# Altium footprint library LDv6.1.PcbLib: 11 footprints
Each footprint in its own frame and in the unit in brackets; x right, y up, seen from the top. Pads: shape width x height; smd on the part's side, far side on the other; paste and mask are expansions set on the pad; w line width, h text height; cw(c..) or ccw(c..) is an arc to the next point about the centre after c.
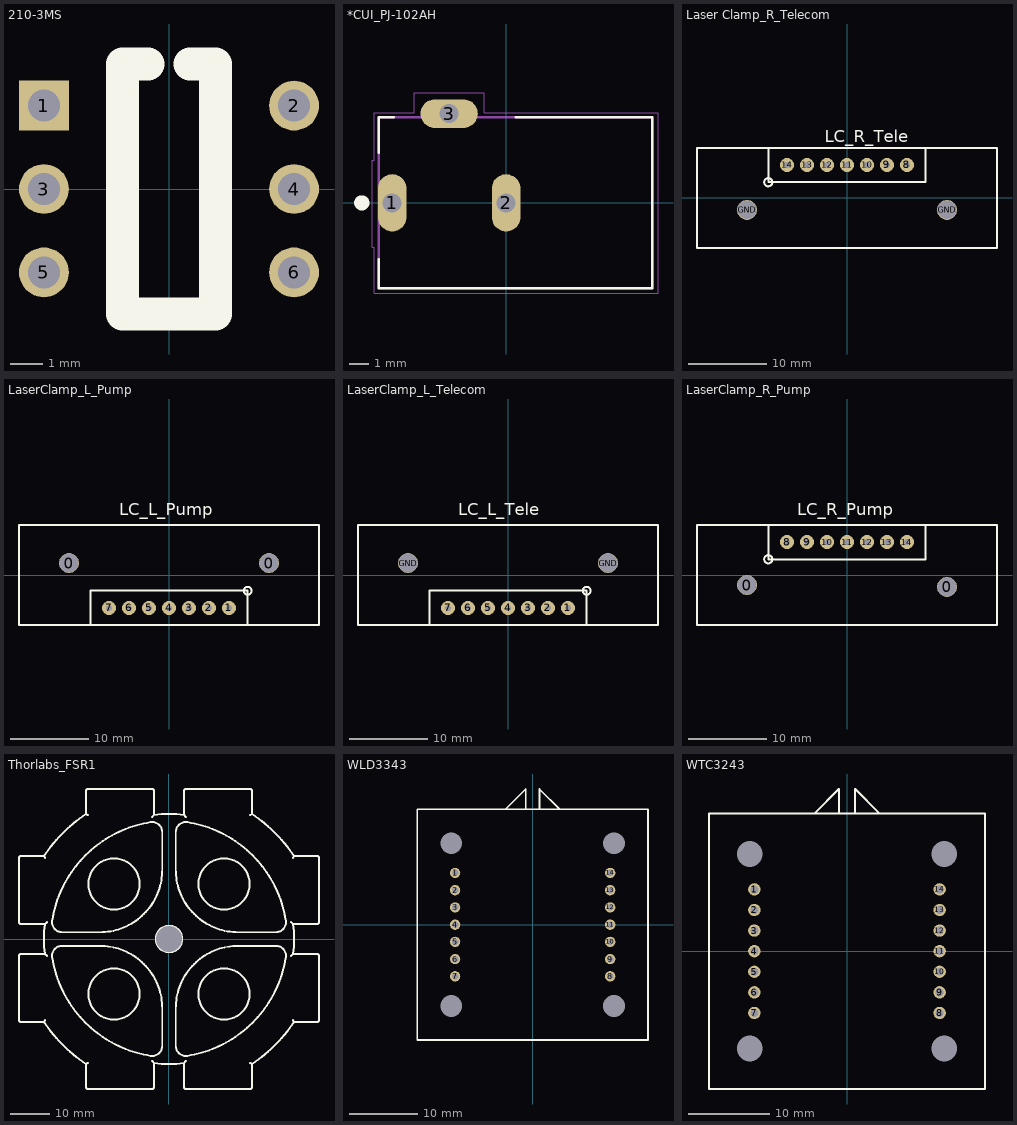
[diagram p0: the footprints below, top view; thin cyan lines are the x and y axes]

## 210-3MS [mm]
pads (6):
  rect 1.52x1.52 hole 0.97: 1(-3.81,2.54)
  round 1.52 hole 0.97: 2(3.81,2.54) 3(-3.81,0) 4(3.81,0) 5(-3.81,-2.54) 6(3.81,-2.54)
Top Overlay:
  lines w1: -0.635,3.81 -1.415,3.81 -1.415,-3.81 1.415,-3.81 1.415,3.81 0.635,3.81

## *CUI_PJ-102AH [mm]
pads (3):
  oval 1.508x3.016 hole 1: 1(-6,0) 2(0,0)
  oval 3.016x1.508 hole 1: 3(-3,4.7)
Top Overlay:
  circle w0.4: c-7.6,0 r0.2
  lines w0.127: -6.7,-2.96 -6.7,-4.5 7.7,-4.5 7.7,4.5 0.5,4.5 ; -6.7,2.628 -6.7,4.5 -5.922,4.5
Mechanical 1:
  lines w0: -6.5,-0.8 -6.5,0.8 -5.5,0.8 -5.5,-0.8 -6.5,-0.8 ; -3.8,4.2 -2.2,4.2 -2.2,5.2 -3.8,5.2 -3.8,4.2 ; -0.5,-0.8 -0.5,0.8 0.5,0.8 0.5,-0.8 -0.5,-0.8
Mechanical 4:
  lines w0.127: -6.7,-4.5 -6.7,4.5 ; -6.7,-4.5 7.7,-4.5 ; -6.7,-4.5 -6.7,4.5 ; -6.7,-4.5 7.7,-4.5 ; -6.7,4.5 7.7,4.5 ; -6.7,4.5 7.7,4.5 ; 7.7,-4.5 7.7,4.5 ; 7.7,-4.5 7.7,4.5
Mechanical 16:
  lines w0.05: -7.05,-2.35 -6.95,-2.35 -6.95,-4.75 8,-4.75 8,4.75 -1.15,4.75 -1.15,5.8 -4.85,5.8 -4.85,4.75 -6.95,4.75 -6.95,2.25 -7.05,2.25 -7.05,-2.35
3D body "PJ-102AH--3DModel-STEP-56544.STEP": height 3.02, standoff -11.49, extent -6.7,-4.5 7.7,4.9

## Laser Clamp_R_Telecom [mm]
pads (9):
  round 1.8 hole 0.8: 8(7.62,4.19) 9(5.08,4.19) 10(2.54,4.19) 11(0,4.19) 12(-2.54,4.19) 13(-5.08,4.19) 14(-7.62,4.19)
  round 2.54 hole 2.362: GND(-12.7,-1.52) GND(12.7,-1.52)
Top Overlay:
  circle w0.254: c-10,2 r0.52
  lines w0.254: -10,6.3 -10,2 10,2 10,6.3 ; -19.05,-6.35 -19.05,6.35 19.05,6.35 19.05,-6.35 -19.05,-6.35
  text "LC_R_Tele" at -2.8,7.1 h1.52

## LaserClamp_L_Pump [mm]
pads (9):
  round 2.54 hole 2.362: 0(-12.7,1.52) 0(12.7,1.52)
  round 1.8 hole 0.8: 1(7.62,-4.19) 2(5.08,-4.19) 3(2.54,-4.19) 4(0,-4.19) 5(-2.54,-4.19) 6(-5.08,-4.19) 7(-7.62,-4.19)
Top Overlay:
  circle w0.254: c10,-2 r0.5
  lines w0.254: -10,-6.3 -10,-2 10,-2 10,-6.3 ; -19.05,-6.35 19.05,-6.35 19.05,6.35 -19.05,6.35 -19.05,-6.35
  text "LC_L_Pump" at -6.35,7.62 h1.52

## LaserClamp_L_Telecom [mm]
pads (9):
  round 1.8 hole 0.8: 1(7.62,-4.19) 2(5.08,-4.19) 3(2.54,-4.19) 4(0,-4.19) 5(-2.54,-4.19) 6(-5.08,-4.19) 7(-7.62,-4.19)
  round 2.54 hole 2.362: GND(-12.7,1.52) GND(12.7,1.52)
Top Overlay:
  circle w0.254: c10,-2 r0.5
  lines w0.254: -10,-6.3 -10,-2 10,-2 10,-6.3 ; -19.05,-6.35 19.05,-6.35 19.05,6.35 -19.05,6.35 -19.05,-6.35
  text "LC_L_Tele" at -6.35,7.62 h1.52

## LaserClamp_R_Pump [mm]
pads (9):
  round 2.54 hole 2.362: 0(-12.7,-1.27) 0(12.7,-1.52)
  round 1.8 hole 0.8: 8(-7.62,4.19) 9(-5.08,4.19) 10(-2.54,4.19) 11(0,4.19) 12(2.54,4.19) 13(5.08,4.19) 14(7.62,4.19)
Top Overlay:
  circle w0.254: c-10,2 r0.52
  lines w0.254: -10,6.3 -10,2 10,2 10,6.3 ; -19.05,-6.35 -19.05,6.35 19.05,6.35 19.05,-6.35 -19.05,-6.35
  text "LC_R_Pump" at -6.35,7.62 h1.52

## Logo [mil]

## Thorlabs_ADAFCB1 [mm]
pads (1):
  round 1 hole 6.604 mask+0.038: 3(0,0)
Top Overlay:
  circle w0.3: c0,0 r3.315
  lines w0.3: -7.5,17.78 -7.5,19.78 -7,19.78 ; -7,17.78 -7,19.78 ; 7,17.78 7,19.78 ; 7.5,17.78 7.5,19.78 7,19.78 ; -8.636,15.494 -8.636,13.894 -8.636,-5.08 -6.096,-7.62 6.096,-7.62 8.636,-5.08 8.636,13.894 8.636,15.494 ; -8.636,15.494 -8.636,17.78 -6.096,17.78 ; -8.636,15.494 -6.096,15.494 ; -7,19.78 -6.75,19.78 -6.75,18.78 -2.75,18.78 -2.75,19.78 2.75,19.78 2.75,18.78 6.75,18.78 6.75,19.78 7,19.78 ; -6.096,15.494 -6.096,17.78 ; -6.096,15.494 6.096,15.494 ; -6.096,17.78 6.096,17.78 ; 6.096,15.494 6.096,17.78 ; 6.096,15.494 8.636,15.494 ; 6.096,17.78 8.636,17.78 8.636,15.494
Mechanical 1:
  drawing of 1003 lines, arcs and shapes, not listed
3D body "ADAFCB1-Step.step": height 27.97, standoff 0.03, extent -8.638,-7.646 14.831,35.367

## Thorlabs_FSR1 [mm]
pads (1):
  round 1 hole 6.604 mask+0.038: 3(0,0)
Top Overlay:
  drawing of 175 lines, arcs and shapes, not listed
3D body "FSR1-Step.step": height 9.71, standoff 0.18, extent -38.1,-38.1 38.1,38.1

## WLD3343 [mm] "Laser Current Driver"
height 0.31
pads (18):
  round 1.52 hole 0.97: 1(-11.43,7.62) 2(-11.43,5.08) 3(-11.43,2.54) 4(-11.43,0) 5(-11.43,-2.54) 6(-11.43,-5.08) 7(-11.43,-7.62) 8(11.43,-7.62) 9(11.43,-5.08) 10(11.43,-2.54) 11(11.43,0) 12(11.43,2.54) 13(11.43,5.08) 14(11.43,7.62)
  round 1.524 hole 3.18 unplated: ""(-12,-12) ""(-12,12) ""(12,-12) ""(12,12)
Top Layer:
  pour cut-out: -24.261,-24.235
Top Overlay:
  lines w0.254: -4,17 -1,20 -1,17 ; 1,17 1,20 4,17 ; -17,-17 -17,17 17,17 17,-17 -17,-17
3D body "wxx_wev301_sldprt v2.step": height 31.8, standoff -4.83, extent -16.42,-16.068 16.51,16.51
3D body: height 49.59, standoff 17.02, extent 0,0 0,0

## WTC3243 [mm] "TEC"
height 7.9
pads (18):
  round 1.52 hole 0.97: 1(-11.43,7.62) 2(-11.43,5.08) 3(-11.43,2.54) 4(-11.43,0) 5(-11.43,-2.54) 6(-11.43,-5.08) 7(-11.43,-7.62) 8(11.43,-7.62) 9(11.43,-5.08) 10(11.43,-2.54) 11(11.43,0) 12(11.43,2.54) 13(11.43,5.08) 14(11.43,7.62)
  round 1.524 hole 3.18 unplated: ""(-12,-12) ""(-12,12) ""(12,-12) ""(12,12)
Top Overlay:
  lines w0.254: -4,17 -1,20 -1,17 ; 1,17 1,20 4,17 ; -17,-17 17,-17 17,17 -17,17 -17,-17
3D body "wxx_wev301_sldprt v2.step": height 31.8, standoff -4.83, extent -16.42,-16.068 16.51,16.51